# EAGLE library part BNC (library MesConnecteurs)
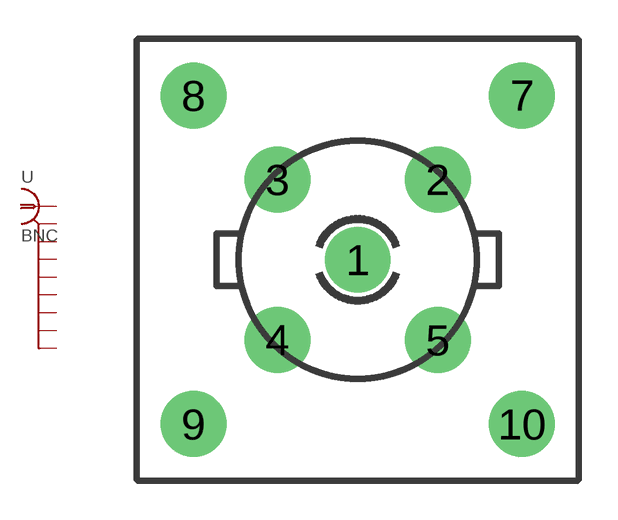
[diagram p1: symbol with the pads of BNC; footprint BNC]

Designator prefix -

## BNC  [BNC]
1  1  pas
2  GND1  pwr
3  GND2  pwr
4  GND3  pwr
5  GND4  pwr
7  GND5  pwr
8  GND6  pwr
9  GND7  pwr
10  GND  pwr

## Footprint BNC (pad centres in mm)
drill 1.2 pad 2.54 round: 1 0,0; 2 3.099,3.099; 3 -3.099,3.099; 4 -3.099,-3.099; 5 3.099,-3.099
drill 1.7 round: 7 6.35,6.35; 8 -6.35,6.35; 9 -6.35,-6.35; 10 6.35,-6.35